# Altium footprint library SOIC14.PcbLib: 1 footprints
Each footprint in its own frame and in the unit in brackets; x right, y up, seen from the top. Pads: shape width x height; smd on the part's side, far side on the other; paste and mask are expansions set on the pad; w line width, h text height; cw(c..) or ccw(c..) is an arc to the next point about the centre after c.
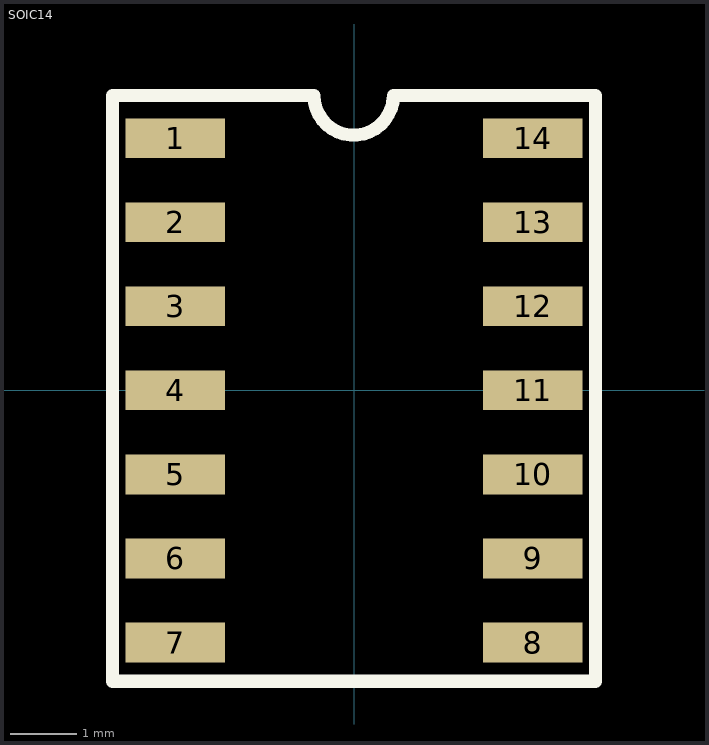
[diagram p0: the footprint, top view; thin cyan lines are the x and y axes]

## SOIC14 [mm]
pads (14):
  rect 1.5x0.6 smd: 1(-2.7,3.805) 2(-2.7,2.535) 3(-2.7,1.265) 4(-2.7,-0.005) 5(-2.7,-1.275) 6(-2.7,-2.545) 7(-2.7,-3.815) 8(2.7,-3.815) 9(2.7,-2.545) 10(2.7,-1.275) 11(2.7,-0.005) 12(2.7,1.265) 13(2.7,2.535) 14(2.7,3.805)
Top Overlay:
  lines w0.2: -3.65,-4.4 -3.65,4.45 -0.605,4.45 ccw(c-0.005,4.45) 0.595,4.45 3.65,4.45 3.65,-4.4 -3.65,-4.4
Top Assembly:
  lines w0.1: 3.6,-4.4 -1.775,-4.4 -3.65,-4.4 -3.65,4.45 -0.6,4.45 ccw(c0,4.45) 0.6,4.45 3.65,4.45 3.65,-4.4
  text "'.Designator'" at -0.925,-0.35 h0.7
3D body "User Library-SOIC14-150.STEP": height 1.75, standoff 0, extent -2.9,-4.275 2.9,4.275